# Altium footprint library VioletofSun.PcbLib: 319 footprints (part 5 of 20)
Each footprint in its own frame and in the unit in brackets; x right, y up, seen from the top. Pads: shape width x height; smd on the part's side, far side on the other; paste and mask are expansions set on the pad; w line width, h text height; cw(c..) or ccw(c..) is an arc to the next point about the centre after c.
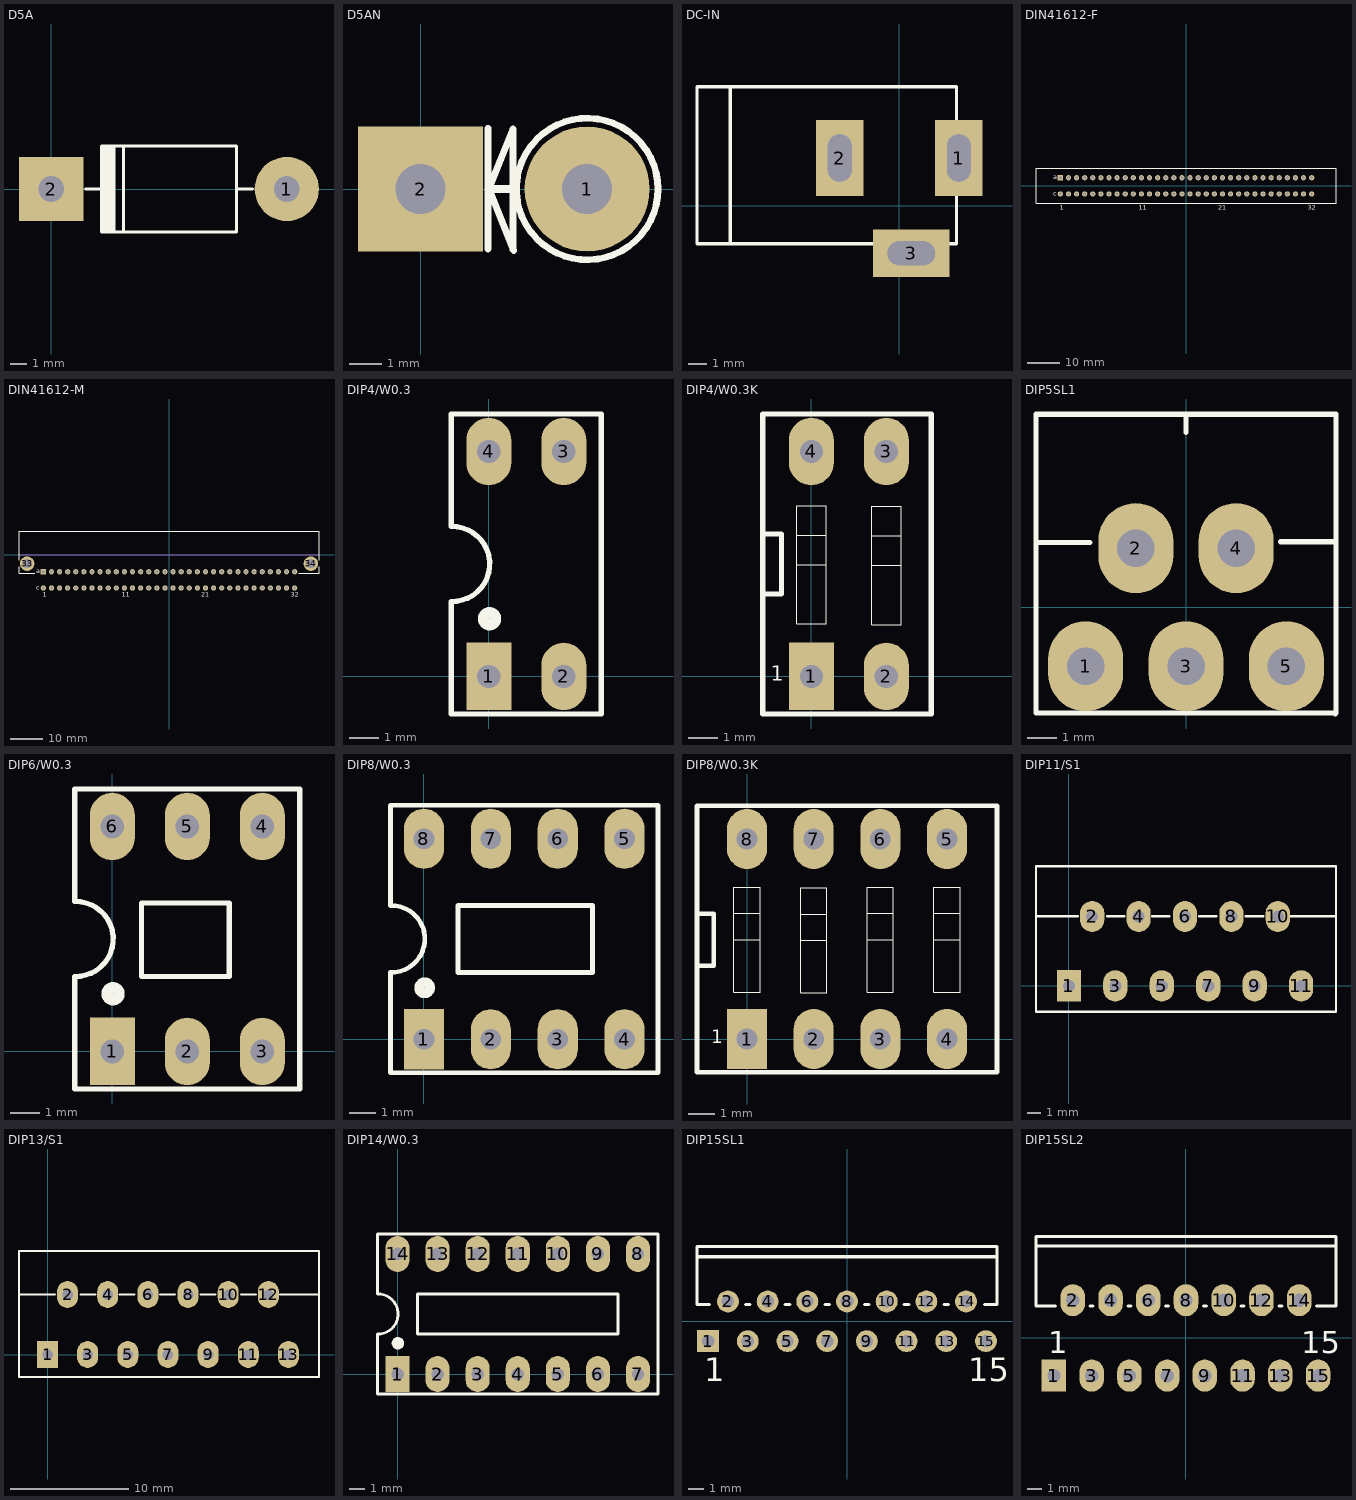
[diagram p4: the footprints below, top view; thin cyan lines are the x and y axes]

## D5A [mil] "Diode 5A, W 200mil, L 550mil"
height 150
pads (2):
  round 150 hole 60: 1(550,0)
  rect 150x150 hole 60: 2(0,0)
Top Overlay:
  rectangle: 120,-100 150,100
  lines w7: 80,0 118,0 ; 118,-44 118,0 ; 118,46 118,0 ; 169,-99 169,100 ; 432,0 470,0 ; 118,-100 118,100 432,100 432,-100 118,-100
3D body: height 254.33, standoff -86.22, extent -51.87,-106 589.87,102.66

## D5AN [mil] "Diode 5A, W 200mil, L 250mil"
height 150
pads (2):
  round 150 hole 60: 1(200,0)
  rect 150x150 hole 60: 2(0,0)
Top Overlay:
  circle w8: c200,0 r85
  lines w8: 81,-72 81,73 ; 82,0 111,72 111,-73 ; 83,-2 112,-74
  lines w10: 82,0 113,0
3D body: height 330.46, standoff 0, extent 21,-74 189,31

## DC-IN [mil] "Jac DC input"
height 200
pads (3):
  rect 100x160 hole 50 slot 100 at 90 deg: 1(125,100) 2(-125,100)
  rect 160x100 hole 50 slot 100 at 0 deg: 3(25,-100)
Top Overlay:
  lines w7: -355,-80 -355,250 ; -425,-80 120,-80 120,250 -425,250 -425,-80

## DIN41612-F [mm] "Connector; DIN 41612, Type C, Thru-Hole; Rows a+c, 64 Position; Vertical; No Mounting Fixture"
height 13
pads (64):
  rect 1.65x1.65 hole 1: A1(-39.37,2.54)
  round 1.65 hole 1: A2(-36.83,2.54) A3(-34.29,2.54) A4(-31.75,2.54) A5(-29.21,2.54) A6(-26.67,2.54) A7(-24.13,2.54) A8(-21.59,2.54) A9(-19.05,2.54) A10(-16.51,2.54) A11(-13.97,2.54) A12(-11.43,2.54) A13(-8.89,2.54) A14(-6.35,2.54) A15(-3.81,2.54) A16(-1.27,2.54) A17(1.27,2.54) A18(3.81,2.54) A19(6.35,2.54) A20(8.89,2.54) A21(11.43,2.54) A22(13.97,2.54) A23(16.51,2.54) A24(19.05,2.54) A25(21.59,2.54) A26(24.13,2.54) A27(26.67,2.54) A28(29.21,2.54) A29(31.75,2.54) A30(34.29,2.54) A31(36.83,2.54) A32(39.37,2.54) C1(-39.37,-2.54) C2(-36.83,-2.54) C3(-34.29,-2.54) C4(-31.75,-2.54) C5(-29.21,-2.54) C6(-26.67,-2.54) C7(-24.13,-2.54) C8(-21.59,-2.54) C9(-19.05,-2.54) C10(-16.51,-2.54) C11(-13.97,-2.54) C12(-11.43,-2.54) C13(-8.89,-2.54) C14(-6.35,-2.54) C15(-3.81,-2.54) C16(-1.27,-2.54) C17(1.27,-2.54) C18(3.81,-2.54) C19(6.35,-2.54) C20(8.89,-2.54) C21(11.43,-2.54) C22(13.97,-2.54) C23(16.51,-2.54) C24(19.05,-2.54) C25(21.59,-2.54) C26(24.13,-2.54) C27(26.67,-2.54) C28(29.21,-2.54) C29(31.75,-2.54) C30(34.29,-2.54) C31(36.83,-2.54) C32(39.37,-2.54)
Top Overlay:
  lines w0.2: -47,-5.5 -47,5.5 47,5.5 47,-5.5 -47,-5.5
  text "21" at 10.18,-7.5 h1.5
  text "11" at -14.82,-7.5 h1.5
  text "32" at 38.12,-7.5 h1.5
  text "c" at -41.58,-3.04 h1.5
  text "a" at -41.58,2.04 h1.5
  text "1" at -39.62,-7.5 h1.5

## DIN41612-M [mm] "Connector; DIN 41612, Type C, Thru-Hole; Rows a+c, 64 Position; Right Angle"
height 11.1
pads (66):
  round 4.6 hole 2.8: 33(-44.45,-2.76) 34(44.45,-2.76)
  rect 1.65x1.65 hole 1: A1(-39.37,-5.3)
  round 1.65 hole 1: A2(-36.83,-5.3) A3(-34.29,-5.3) A4(-31.75,-5.3) A5(-29.21,-5.3) A6(-26.67,-5.3) A7(-24.13,-5.3) A8(-21.59,-5.3) A9(-19.05,-5.3) A10(-16.51,-5.3) A11(-13.97,-5.3) A12(-11.43,-5.3) A13(-8.89,-5.3) A14(-6.35,-5.3) A15(-3.81,-5.3) A16(-1.27,-5.3) A17(1.27,-5.3) A18(3.81,-5.3) A19(6.35,-5.3) A20(8.89,-5.3) A21(11.43,-5.3) A22(13.97,-5.3) A23(16.51,-5.3) A24(19.05,-5.3) A25(21.59,-5.3) A26(24.13,-5.3) A27(26.67,-5.3) A28(29.21,-5.3) A29(31.75,-5.3) A30(34.29,-5.3) A31(36.83,-5.3) A32(39.37,-5.3) C1(-39.37,-10.38) C2(-36.83,-10.38) C3(-34.29,-10.38) C4(-31.75,-10.38) C5(-29.21,-10.38) C6(-26.67,-10.38) C7(-24.13,-10.38) C8(-21.59,-10.38) C9(-19.05,-10.38) C10(-16.51,-10.38) C11(-13.97,-10.38) C12(-11.43,-10.38) C13(-8.89,-10.38) C14(-6.35,-10.38) C15(-3.81,-10.38) C16(-1.27,-10.38) C17(1.27,-10.38) C18(3.81,-10.38) C19(6.35,-10.38) C20(8.89,-10.38) C21(11.43,-10.38) C22(13.97,-10.38) C23(16.51,-10.38) C24(19.05,-10.38) C25(21.59,-10.38) C26(24.13,-10.38) C27(26.67,-10.38) C28(29.21,-10.38) C29(31.75,-10.38) C30(34.29,-10.38) C31(36.83,-10.38) C32(39.37,-10.38)
Top Overlay:
  lines w0.2: -47,-3.76 -47,-5.8 -42.07,-5.8 ; -47,-1.76 -47,7.34 47,7.34 47,-1.76 ; 40.595,-5.8 47,-5.8 47,-3.76
  text "21" at 10.18,-13.08 h1.5
  text "11" at -14.845,-13.08 h1.5
  text "32" at 38.12,-13.08 h1.5
  text "c" at -41.58,-10.88 h1.5
  text "a" at -41.58,-5.8 h1.5
  text "1" at -39.62,-13.08 h1.5
Mechanical 1:
  lines w0.1: -47,0 47,0
  text "PCB Edge" at -46.47,0.5 h0.6

## DIP4/W0.3 [mil] "4 PIN, W 300mil, Pin to pin 100mil"
height 100
pads (4):
  rect 60x90 hole 31: 1(0,0)
  oval 60x90 hole 31: 2(100,0) 3(100,300) 4(0,300)
Top Overlay:
  circle w15: c1,77 r8
  lines w7: -50.38,100.05 ccw(c-48.69,150.02) -50,200 ; -50,100 -50,-50 150,-50 150,350 -50,350 -50,201
3D body: height 169.69, standoff -129.13, extent -59.06,-10 159.06,304.96

## DIP4/W0.3K [mil] "4 PIN, W 400mil , L 450mil,Pin to pin 100mil"
height 100
pads (4):
  rect 60x90 hole 31: 1(0,0)
  oval 60x90 hole 31: 2(100,0) 3(100,300) 4(0,300)
Top Overlay:
  lines w1.5: -19.68,149 19.68,149 ; -19.68,188.37 19.68,188.37 ; 80.31,148 119.69,148 ; 80.31,187.37 119.69,187.37 ; -19.68,70.26 19.68,70.26 19.68,227.74 -19.68,227.74 -19.68,70.26 ; 80.31,69.26 119.69,69.26 119.69,226.74 80.31,226.74 80.31,69.26
  lines w7: -65,110 -40,110 -40,190 -65,190 ; -65,-50 160,-50 160,350 -65,350 -65,-50
  text "1" at -54,-6 h20
3D body: height 354.33, standoff -157.48, extent -66.22,-103.43 170,343.43

## DIP5SL1 [mm]
pads (5):
  oval 2.54x3.048 hole 1.27: 1(-3.4,-2) 2(-1.7,2) 3(0,-2) 4(1.7,2) 5(3.4,-2)
Top Overlay:
  lines w0.178: -5.076,2.191 -3.248,2.191 ; 0,5.918 0,6.502 ; 3.204,2.216 5.033,2.216 ; -5.08,-3.581 5.029,-3.581 5.055,-3.607 5.08,-3.581 5.08,6.534 -5.08,6.534 -5.08,-3.581

## DIP6/W0.3 [mil] "6 PIN, W 300mil, Pin to pin 100mil"
height 100
pads (6):
  rect 60x90 hole 31.5: 1(0,0)
  oval 60x90 hole 31.5: 2(100,0) 3(200,0) 4(200,300) 5(100,300) 6(0,300)
Top Overlay:
  circle w15: c1,77 r8
  lines w7: -50.38,100.05 ccw(c-48.69,150.02) -50,200 ; -50,100 -50,-50 250,-50 250,350 -50,350 -50,201 ; 39,100 156,100 156,198 39,198 39,100
3D body: height 169.69, standoff -129.13, extent -58.11,-7.48 260,307.48

## DIP8/W0.3 [mil] "8 PIN, W 300mil, Pin to pin 100mil"
height 100
pads (8):
  rect 60x90 hole 31: 1(0,0)
  oval 60x90 hole 31: 2(100,0) 3(200,0) 4(300,0) 5(300,300) 6(200,300) 7(100,300) 8(0,300)
Top Overlay:
  circle w15: c1,77 r8
  lines w7: -50.38,100.05 ccw(c-48.69,150.02) -50,200 ; -50,100 -50,-50 350,-50 350,350 -50,350 -50,201 ; 51,100 252,100 252,200 51,200 51,100
3D body: height 201.25, standoff -129.47, extent -50,-40 350,336.4

## DIP8/W0.3K [mil] "8 PIN, W 400mil , L 450mil, Pin to pin 100mil For Switch"
height 100
pads (8):
  rect 60x90 hole 31: 1(0,0)
  oval 60x90 hole 31: 2(100,0) 3(200,0) 4(300,0) 5(300,300) 6(200,300) 7(100,300) 8(0,300)
Top Overlay:
  lines w1.5: -19.68,149 19.68,149 ; -19.68,188.37 19.68,188.37 ; 80.31,148 119.69,148 ; 80.31,187.37 119.69,187.37 ; 180.31,149 219.69,149 ; 180.31,188.37 219.69,188.37 ; 280.31,149 319.69,149 ; 280.31,188.37 319.69,188.37 ; -19.68,70.26 -19.68,227.74 19.68,227.74 19.68,70.26 -19.68,70.26 ; 80.31,69.26 80.31,226.74 119.69,226.74 119.69,69.26 80.31,69.26 ; 180.31,70.26 180.31,227.74 219.69,227.74 219.69,70.26 180.31,70.26 ; 280.31,70.26 280.31,227.74 319.69,227.74 319.69,70.26 280.31,70.26
  lines w7: -75,68.5 -75,233 ; -75,110 -50,110 -50,188 -74,188 -75,189 ; -75,126 -75,-50 375,-50 375,350 -75,350 -75,176
  text "1" at -54,-6 h20
3D body: height 158.27, standoff -9.84, extent -80,-45.08 377.87,345.08

## DIP11/S1 [mil] "11 Pin so le hai hang cach nhau 200mil., Pin to pin 100mil"
pads (11):
  rect 70x90 hole 35: 1(0,0)
  oval 70x90 hole 35: 2(66.93,200) 3(133.86,0) 4(200.79,200) 5(267.72,0) 6(334.65,200) 7(401.57,0) 8(468.5,200) 9(535.43,0) 10(602.36,200) 11(669.29,0)
Top Overlay:
  lines w7: -95,200 25,200 ; 110,200 160,200 ; 240,200 290,200 ; 375,200 425,200 ; 510,200 560,200 ; 630,200 770,200 ; -95,-75 770,-75 770,345 -95,345 -95,-75

## DIP13/S1 [mil] "13 Pin so le hai hang cach nhau 200mil., Pin to pin 100mil"
pads (13):
  rect 70x90 hole 35: 1(0,0)
  oval 70x90 hole 35: 2(66.93,200) 3(133.86,0) 4(200.79,200) 5(267.72,0) 6(334.65,200) 7(401.57,0) 8(468.5,200) 9(535.43,0) 10(602.36,200) 11(669.29,0) 12(736.22,200) 13(803.15,0)
Top Overlay:
  lines w7: -95,200 25,200 ; 110,200 160,200 ; 240,200 290,200 ; 375,200 425,200 ; 510,200 560,200 ; 645,200 695,200 ; 775,200 905,200 ; -95,-75 905,-75 905,345 -95,345 -95,-75

## DIP14/W0.3 [mil] "14PIN, W 300mil, Pin to pin 100mil"
height 100
pads (14):
  rect 60x90 hole 31: 1(0,0)
  oval 60x90 hole 31: 2(100,0) 3(200,0) 4(300,0) 5(400,0) 6(500,0) 7(600,0) 8(600,300) 9(500,300) 10(400,300) 11(300,300) 12(200,300) 13(100,300) 14(0,300)
Top Overlay:
  circle w15: c1,77 r8
  lines w7: -50.38,100.05 ccw(c-48.69,150.02) -50,200 ; -50,100 -50,-50 650,-50 650,350 -50,350 -50,201 ; 50,100 50,200 550,200 550,100 50,100
3D body: height 159.45, standoff -115.35, extent -75,-10 675,304.96

## DIP15SL1 [mm] "TO, Thru-Hole, Vertical, Heatsink Mounted; 15 Bent Staggered Leads; Pitch 1.27 mm"
height 17.3
pads (15):
  rect 1.4x1.4 hole 0.8: 1(-8.89,-1.27)
  round 1.4 hole 0.8: 2(-7.62,1.27) 3(-6.35,-1.27) 4(-5.08,1.27) 5(-3.81,-1.27) 6(-2.54,1.27) 7(-1.27,-1.27) 8(0,1.27) 9(1.27,-1.27) 10(2.54,1.27) 11(3.81,-1.27) 12(5.08,1.27) 13(6.35,-1.27) 14(7.62,1.27) 15(8.89,-1.27)
Top Overlay:
  lines w0.2: -9.6,4.13 9.6,4.13 ; -8.8,1.08 -9.6,1.08 -9.6,4.78 9.6,4.78 9.6,1.08 8.8,1.08 ; -6.5,1.08 -6.2,1.08 ; -3.96,1.08 -3.66,1.08 ; -1.42,1.08 -1.12,1.08 ; 1.12,1.08 1.42,1.08 ; 3.66,1.08 3.96,1.08 ; 6.2,1.08 6.5,1.08
  text "15" at 7.765,-3.845 h1.5
  text "1" at -9.14,-3.845 h1.5

## DIP15SL2 [mil] "TO, Thru-Hole, Vertical, Heatsink Mounted; 15 Bent Staggered Leads; Pitch 1.27 mm"
height 826.77
pads (15):
  rect 65x85 hole 35.43: 1(-350,-100)
  oval 65x85 hole 35.43: 2(-300,100) 3(-250,-100) 4(-200,100) 5(-150,-100) 6(-100,100) 7(-50,-100) 8(0,100) 9(50,-100) 10(100,100) 11(150,-100) 12(200,100) 13(250,-100) 14(300,100) 15(350,-100)
Top Overlay:
  lines w7.87: -397.64,243.7 397.64,243.7 ; -346.46,84.25 -397.64,84.25 -397.64,269.29 397.64,269.29 397.64,84.25 346.46,84.25 ; -253.94,84.25 -246.06,84.25 ; -153.94,84.25 -146.06,84.25 ; -53.94,84.25 -46.06,84.25 ; 46.06,84.25 53.94,84.25 ; 146.06,84.25 153.94,84.25 ; 246.06,84.25 253.94,84.25
  text "1" at -365,-40 h59.06
  text "15" at 305,-40 h59.06